# Altium footprint library CUBaja.PcbLib: 79 footprints (part 2 of 5)
Each footprint in its own frame and in the unit in brackets; x right, y up, seen from the top. Pads: shape width x height; smd on the part's side, far side on the other; paste and mask are expansions set on the pad; w line width, h text height; cw(c..) or ccw(c..) is an arc to the next point about the centre after c.
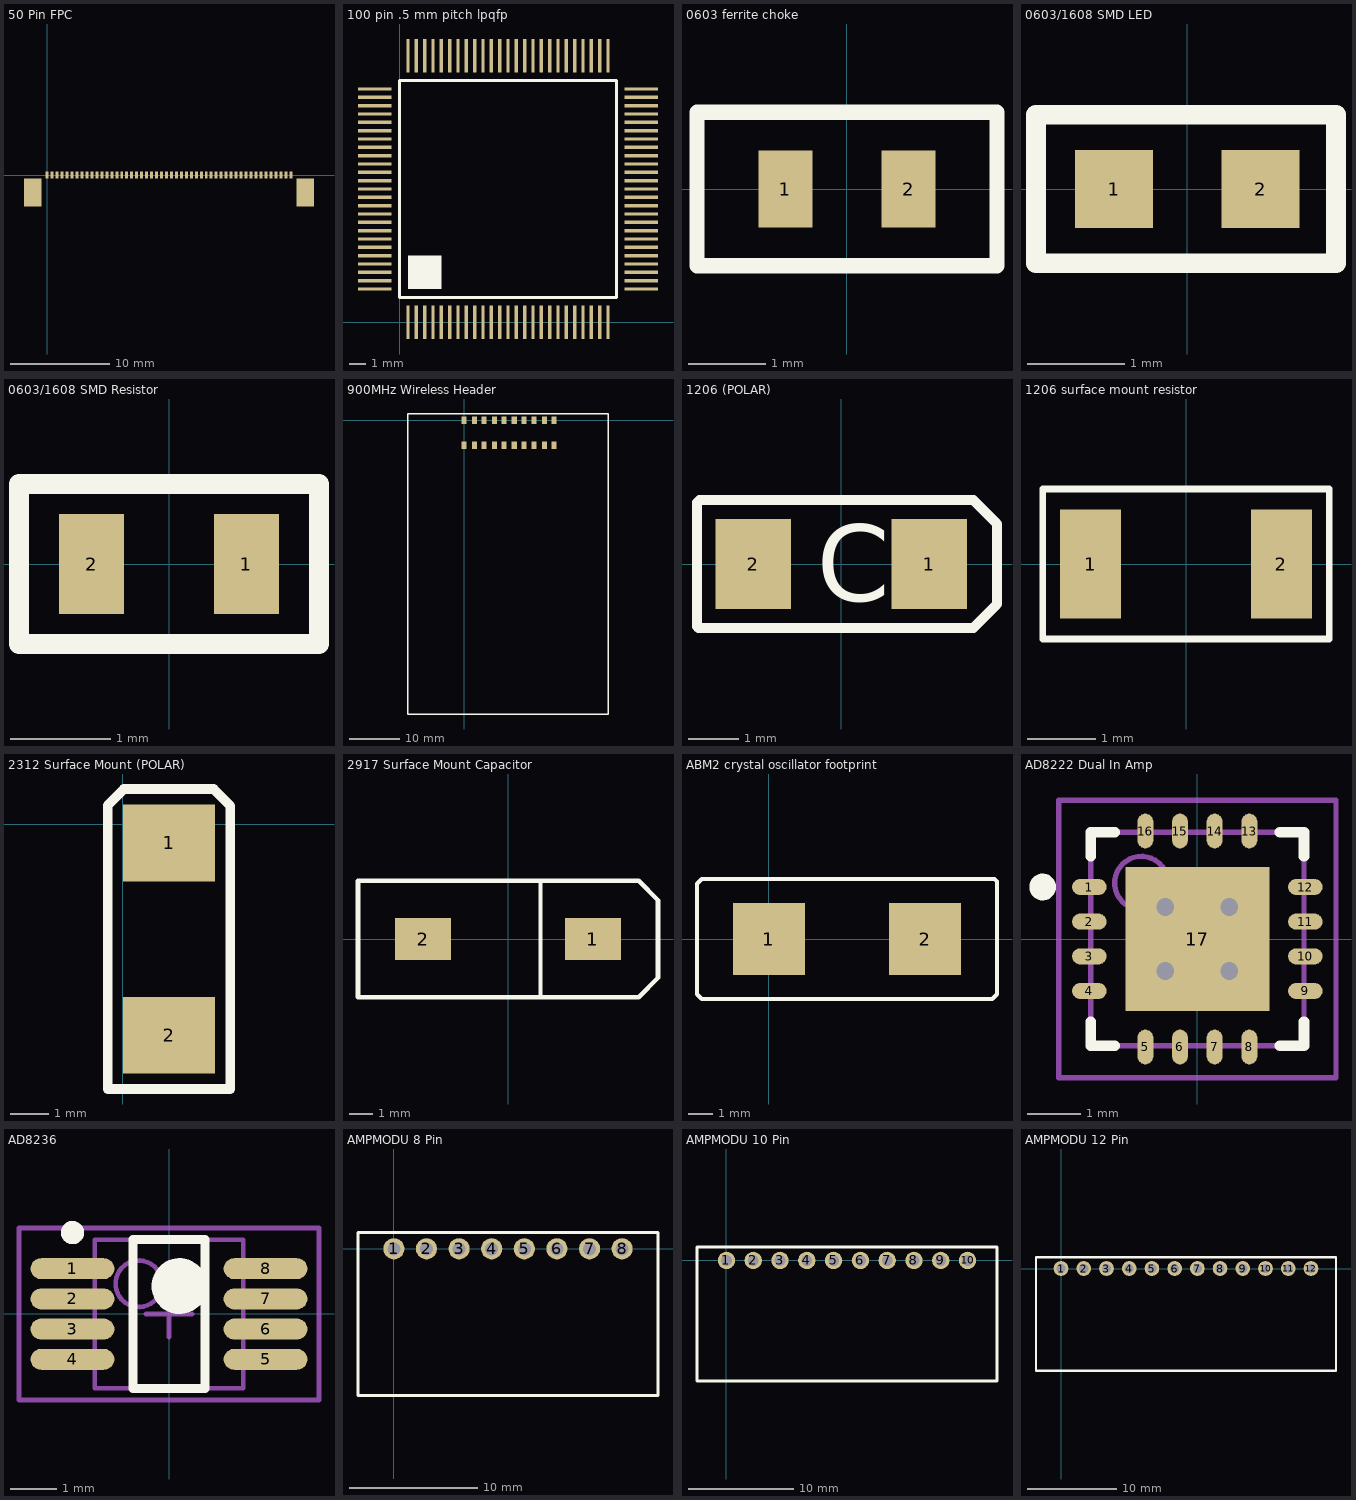
[diagram p1: the footprints below, top view; thin cyan lines are the x and y axes]

## 50 Pin FPC [mm]
pads (52):
  rect 0.3x0.7 smd: 1(24.5,0) 2(24,0) 3(23.5,0) 4(23,0) 5(22.5,0) 6(22,0) 7(21.5,0) 8(21,0) 9(20.5,0) 10(20,0) 11(19.5,0) 12(19,0) 13(18.5,0) 14(18,0) 15(17.5,0) 16(17,0) 17(16.5,0) 18(16,0) 19(15.5,0) 20(15,0) 21(14.5,0) 22(14,0) 23(13.5,0) 24(13,0) 25(12.5,0) 26(12,0) 27(11.5,0) 28(11,0) 29(10.5,0) 30(10,0) 31(9.5,0) 32(9,0) 33(8.5,0) 34(8,0) 35(7.5,0) 36(7,0) 37(6.5,0) 38(6,0) 39(5.5,0) 40(5,0) 41(4.5,0) 42(4,0) 43(3.5,0) 44(3,0) 45(2.5,0) 46(2,0) 47(1.5,0) 48(1,0) 49(0.5,0) 50(0,0)
  rect 1.75x2.8 smd: ""(-1.435,-1.75) ""(25.94,-1.75)

## 100 pin .5 mm pitch lpqfp [mm] "lpc1768"
pads (100):
  rect 0.2x2 smd: 1(0.5,0) 2(1,0) 3(1.5,0) 4(2,0) 5(2.5,0) 6(3,0) 7(3.5,0) 8(4,0) 9(4.5,0) 10(5,0) 11(5.5,0) 12(6,0) 13(6.5,0) 14(7,0) 15(7.5,0) 16(8,0) 17(8.5,0) 18(9,0) 19(9.5,0) 20(10,0) 21(10.5,0) 22(11,0) 23(11.5,0) 24(12,0) 25(12.5,0) 51(12.5,16) 52(12,16) 53(11.5,16) 54(11,16) 55(10.5,16) 56(10,16) 57(9.5,16) 58(9,16) 59(8.5,16) 60(8,16) 61(7.5,16) 62(7,16) 63(6.5,16) 64(6,16) 65(5.5,16) 66(5,16) 67(4.5,16) 68(4,16) 69(3.5,16) 70(3,16) 71(2.5,16) 72(2,16) 73(1.5,16) 74(1,16) 75(0.5,16)
  rect 2x0.2 smd: 26(14.5,2) 27(14.5,2.5) 28(14.5,3) 29(14.5,3.5) 30(14.5,4) 31(14.5,4.5) 32(14.5,5) 33(14.5,5.5) 34(14.5,6) 35(14.5,6.5) 36(14.5,7) 37(14.5,7.5) 38(14.5,8) 39(14.5,8.5) 40(14.5,9) 41(14.5,9.5) 42(14.5,10) 43(14.5,10.5) 44(14.5,11) 45(14.5,11.5) 46(14.5,12) 47(14.5,12.5) 48(14.5,13) 49(14.5,13.5) 50(14.5,14) 76(-1.5,14) 77(-1.5,13.5) 78(-1.5,13) 79(-1.5,12.5) 80(-1.5,12) 81(-1.5,11.5) 82(-1.5,11) 83(-1.5,10.5) 84(-1.5,10) 85(-1.5,9.5) 86(-1.5,9) 87(-1.5,8.5) 88(-1.5,8) 89(-1.5,7.5) 90(-1.5,7) 91(-1.5,6.5) 92(-1.5,6) 93(-1.5,5.5) 94(-1.5,5) 95(-1.5,4.5) 96(-1.5,4) 97(-1.5,3.5) 98(-1.5,3) 99(-1.5,2.5) 100(-1.5,2)
Top Overlay:
  rectangle: 0.5,2 2.5,4
  lines w0.178: 0,1.5 13,1.5 13,14.5 0,14.5 0,1.5

## 0603 ferrite choke [mm]
pads (2):
  rect 0.7x1 smd: 1(-0.8,0) 2(0.8,0)
Top Overlay:
  lines w0.2: -1.95,-1 -1.95,0 -1.95,1 1.95,1 1.95,-1 -1.95,-1

## 0603/1608 SMD LED [mm]
height 0.55
pads (2):
  rect 0.8x0.8 smd: 1(-0.75,0) 2(0.75,0)
Top Overlay:
  lines w0.2: -1.552,-0.762 1.524,-0.762 1.524,0.762 -1.552,0.762 -1.552,0.247 -1.552,-0.762

## 0603/1608 SMD Resistor [mm]
pads (2):
  rect 0.65x1 smd: 1(0.775,0) 2(-0.775,0)
Top Overlay:
  lines w0.2: -1.5,-0.8 1.5,-0.8 1.5,0.8 -1.5,0.8 -1.5,0.225 -1.5,-0.8

## 900MHz Wireless Header [mm]
height 5
pads (20):
  rect 1x1.5 smd: 1(0,0) 2(0,-5) 3(2,0) 4(2,-5) 5(4,0) 6(4,-5) 7(6,0) 8(6,-5) 9(8,0) 10(8,-5) 11(10,0) 12(10,-5) 13(12,0) 14(12,-5) 15(14,0) 16(14,-5) 17(16,0) 18(16,-5) 19(18,0) 20(18,-5)
Top Overlay:
  lines w0.254: -11.25,-58.75 -11.25,1.25 -1,1.25 18.75,1.25 28.75,1.25 28.75,-58.75 -11.25,-58.75

## 1206 (POLAR) [mm]
pads (2):
  rect 1.5x1.8 smd: 1(1.75,0) 2(-1.75,0)
Top Overlay:
  lines w0.2: -2.87,-0.406 -2.87,1.219 -2.819,1.27 2.63,1.27 3.1,0.8 3.1,-0.8 2.63,-1.27 -2.845,-1.27 -2.87,-1.245 -2.87,-0.102
  text "C" at -0.483,-0.737 h1.52

## 1206 surface mount resistor [mm]
pads (2):
  rect 0.9x1.6 smd: 1(-1.4,0) 2(1.4,0)
Top Overlay:
  lines w0.1: -2.1,-0.5 -2.1,1.1 2.1,1.1 2.1,-1.1 -2.1,-1.1 -2.1,-0.1

## 2312 Surface Mount (POLAR) [mm]
pads (2):
  rect 2.4x2 smd: 1(1.2,-0.492) 2(1.2,-5.5)
Top Overlay:
  lines w0.25: -0.4,-6.9 2.8,-6.9 2.8,0.477 2.362,0.914 0.025,0.914 -0.4,0.489 -0.4,-6.9

## 2917 Surface Mount Capacitor [mm]
pads (2):
  rect 2.4x1.8 smd: 1(3.65,0) 2(-3.65,0)
Top Overlay:
  lines w0.178: 1.397,-2.413 1.397,2.413
  lines w0.2: -6.45,-2.5 5.617,-2.5 6.45,-1.667 6.45,1.667 5.617,2.5 -6.45,2.5 -6.45,0 -6.45,-2.5

## ABM2 crystal oscillator footprint [mm] "main board ML08"
height 1.397
pads (2):
  rect 3x3 smd: 1(0,0) 2(6.5,0)
Top Overlay:
  lines w0.178: -3,0 -3,2.3 ; -3,2.3 -3,-2.3 -2.8,-2.5 9.3,-2.5 9.5,-2.3 9.5,2.4 9.4,2.5 -2.8,2.5 -3,2.3

## AD8222 Dual In Amp [mm] "QFN, 16-Leads, Body 4.0x4.0mm (max), Pitch 0.65mm, IPC Medium Density"
height 0.85
pads (17):
  oval 0.65x0.3 smd: 1(-2.025,0.975) 2(-2.025,0.325) 3(-2.025,-0.325) 4(-2.025,-0.975) 9(2.025,-0.975) 10(2.025,-0.325) 11(2.025,0.325) 12(2.025,0.975)
  oval 0.3x0.65 smd: 5(-0.975,-2.025) 6(-0.325,-2.025) 7(0.325,-2.025) 8(0.975,-2.025) 13(0.975,2.025) 14(0.325,2.025) 15(-0.325,2.025) 16(-0.975,2.025)
  rect 2.7x2.7 smd: 17(0,0)
via -0.6,0.6 diameter 0.66 hole 0.33
via 0.6,0.6 diameter 0.66 hole 0.33
via -0.6,-0.6 diameter 0.66 hole 0.33
via 0.6,-0.6 diameter 0.66 hole 0.33
Top Overlay:
  circle w0.25: c-2.9,0.975 r0.125
  lines w0.2: -2,-1.55 -2,-2 -1.55,-2 ; -2,1.55 -2,2 -1.55,2 ; 1.55,-2 2,-2 2,-1.55 ; 1.55,2 2,2 2,1.55
Mechanical 13:
  circle w0.1: c-1.05,1.05 r0.5
  lines w0.1: -2,-2 -2,2 2,2 2,-2 -2,-2
Mechanical 15:
  lines w0.1: -0.5,0 0.5,0 ; 0,-0.5 0,0.5 ; -2.6,-2.6 -2.6,2.6 2.6,2.6 2.6,-2.6 -2.6,-2.6
3D body: height 0.85, standoff 0.02, extent -2,-2 2,2

## AD8236 [mm] "TSOP, 8-Leads, Body 3.2x3.2mm (max), Pitch 0.65mm, IPC Medium Density"
height 1.1
pads (8):
  oval 1.8x0.45 smd: 1(-2.075,0.975) 2(-2.075,0.325) 3(-2.075,-0.325) 4(-2.075,-0.975) 5(2.075,-0.975) 6(2.075,-0.325) 7(2.075,0.325) 8(2.075,0.975)
Top Overlay:
  circle w0.6: c0.225,0.6 r0.3
  circle w0.25: c-2.075,1.75 r0.125
  lines w0.2: -0.775,-1.6 0.775,-1.6 0.775,1.6 -0.775,1.6 -0.775,-1.6
Mechanical 13:
  circle w0.1: c-0.65,0.65 r0.5
  lines w0.1: -1.6,-1.6 1.6,-1.6 1.6,1.6 -1.6,1.6 -1.6,-1.6
Mechanical 15:
  lines w0.1: -0.5,0 0.5,0 ; 0,-0.5 0,0.5 ; -3.225,-1.85 3.225,-1.85 3.225,1.85 -3.225,1.85 -3.225,-1.85
3D body: height 1.1, standoff 0, extent -1.6,-1.6 1.6,1.6

## AMPMODU 8 Pin [mil]
pads (8):
  round 65 hole 40: 1(0,0) 2(100,0) 3(200,0) 4(300,0) 5(400,0) 6(500,0) 7(600,0) 8(700,0)
Top Overlay:
  lines w9.84: -110,-450 -110,50 ; 810,-450 810,50
  lines w10: -110,-450 810,-450 ; -110,50 810,50

## AMPMODU 10 Pin [mil]
pads (10):
  round 65 hole 40: 1(0,0) 2(100,0) 3(200,0) 4(300,0) 5(400,0) 6(500,0) 7(600,0) 8(700,0) 9(800,0) 10(900,0)
Top Overlay:
  lines w9.84: -110,-450 -110,50 ; 1010,-450 1010,50
  lines w10: -110,-450 1010,-450 ; -110,50 1010,50

## AMPMODU 12 Pin [mil]
pads (12):
  round 65 hole 40: 1(0,0) 2(100,0) 3(200,0) 4(300,0) 5(400,0) 6(500,0) 7(600,0) 8(700,0) 9(800,0) 10(900,0) 11(1000,0) 12(1100,0)
Top Overlay:
  lines w9.84: -110,-450 -110,50 ; 1210,-450 1210,50
  lines w10: -110,-450 1210,-450 ; -110,50 1210,50